# EAGLE library part MICROBUILDER_HEADER-2X8 (library Adafruit RGB Matrix Shield)
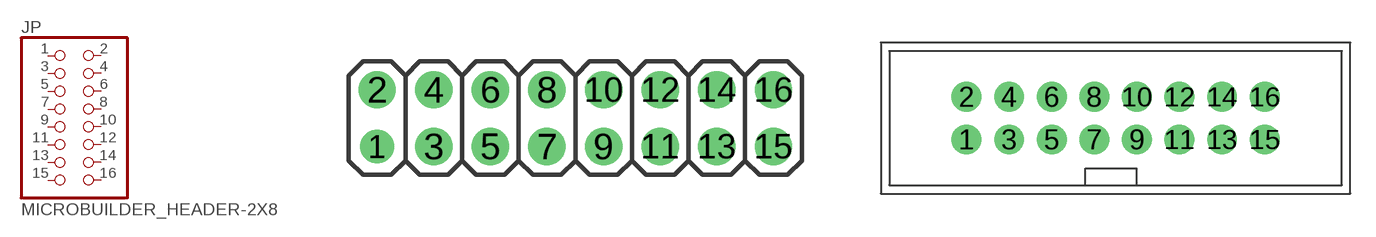
[diagram p5: symbol with the pads of MICROBUILDER_2X08; footprints MICROBUILDER_2X08, MICROBUILDER_2X08_SHROUDED]

Designator prefix JP

## MICROBUILDER_HEADER-2X8  [MICROBUILDER_2X08]
1  1  pas
2  2  pas
3  3  pas
4  4  pas
5  5  pas
6  6  pas
7  7  pas
8  8  pas
9  9  pas
10  10  pas
11  11  pas
12  12  pas
13  13  pas
14  14  pas
15  15  pas
16  16  pas

## MICROBUILDER_HEADER-2X8_SHROUDED  [MICROBUILDER_2X08_SHROUDED]
Pads as for MICROBUILDER_2X08

## MICROBUILDER_HEADER-2X8_SHROUDEDSMT  [MICROBUILDER_2X08_SHROUDEDSMT]
Pads as for MICROBUILDER_2X08

## Footprint MICROBUILDER_2X08 (pad centres in mm)
drill 1: 1 -8.89,-1.27
drill 1 pad 1.676: 2 -8.89,1.27; 3 -6.35,-1.27; 4 -6.35,1.27; 5 -3.81,-1.27; 6 -3.81,1.27; 7 -1.27,-1.27; 8 -1.27,1.27; 9 1.27,-1.27; 10 1.27,1.27; 11 3.81,-1.27; 12 3.81,1.27; 13 6.35,-1.27; 14 6.35,1.27; 15 8.89,-1.27; 16 8.89,1.27

## Footprint MICROBUILDER_2X08_SHROUDED (pad centres in mm)
drill 1 pad 1.778: 1 -8.89,-1.27; 2 -8.89,1.27; 3 -6.35,-1.27; 4 -6.35,1.27; 5 -3.81,-1.27; 6 -3.81,1.27; 7 -1.27,-1.27; 8 -1.27,1.27; 9 1.27,-1.27; 10 1.27,1.27; 11 3.81,-1.27; 12 3.81,1.27; 13 6.35,-1.27; 14 6.35,1.27; 15 8.89,-1.27; 16 8.89,1.27

## Footprint MICROBUILDER_2X08_SHROUDEDSMT (pad centres in mm)
smd 1.02 x 5: 1 -8.89,-3; 2 -8.89,3; 3 -6.35,-3; 4 -6.35,3; 5 -3.81,-3; 6 -3.81,3; 7 -1.27,-3; 8 -1.27,3; 9 1.27,-3; 10 1.27,3; 11 3.81,-3; 12 3.81,3; 13 6.35,-3; 14 6.35,3; 15 8.89,-3; 16 8.89,3